# EAGLE library part STR-Y6700 (library my_ic)
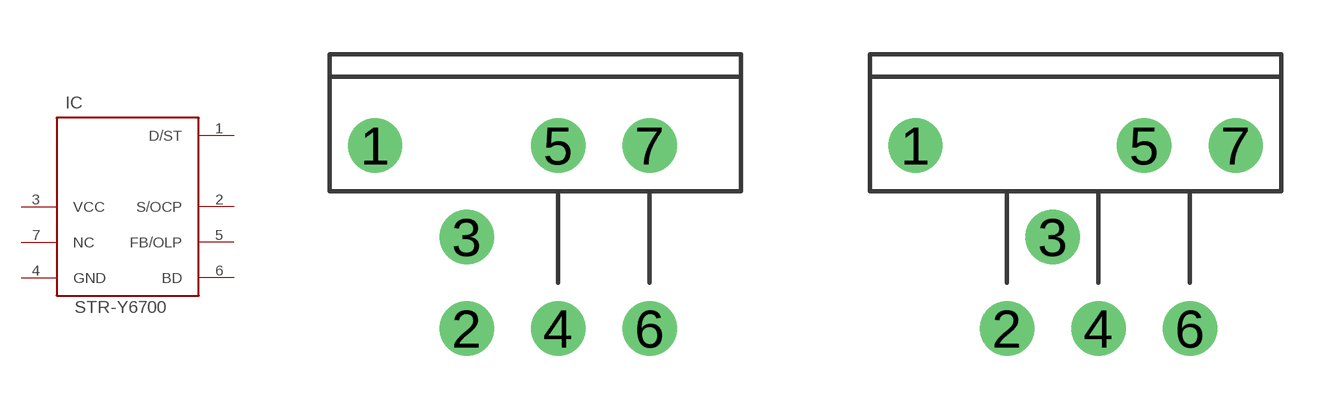
[diagram p18: symbol with the pads of TO220F-7L-3051-UNIVERSAL; footprints TO220F-7L-3051-UNIVERSAL, TO220F-7L-3051]

Designator prefix IC

## STR-Y6700-UNIVERSAL  [TO220F-7L-3051-UNIVERSAL]
1  D/ST  out
2  S/OCP  in
3  VCC  pwr
4  GND  pwr
5  FB/OLP  in
6  BD  in
7  NC  in

## STR-Y6700  [TO220F-7L-3051]
Pads as for TO220F-7L-3051-UNIVERSAL

## Footprint TO220F-7L-3051-UNIVERSAL (pad centres in mm)
Molded Package
drill 1: 1 -3.81,0; 2 -1.27,-5.08; 3 -1.27,-2.54; 4 1.27,-5.08; 5 1.27,0; 6 3.81,-5.08; 7 3.81,0

## Footprint TO220F-7L-3051 (pad centres in mm)
Molded Package
drill 1: 1 -5.08,0; 2 -2.54,-5.08; 3 -1.27,-2.54; 4 0,-5.08; 5 1.27,0; 6 2.54,-5.08; 7 3.81,0